# Altium footprint library Wurth_Elektronik_Passive_rev16a.PCBLIB: 810 footprints (part 19 of 51)
Each footprint in its own frame and in the unit in brackets; x right, y up, seen from the top. Pads: shape width x height; smd on the part's side, far side on the other; paste and mask are expansions set on the pad; w line width, h text height; cw(c..) or ccw(c..) is an arc to the next point about the centre after c.
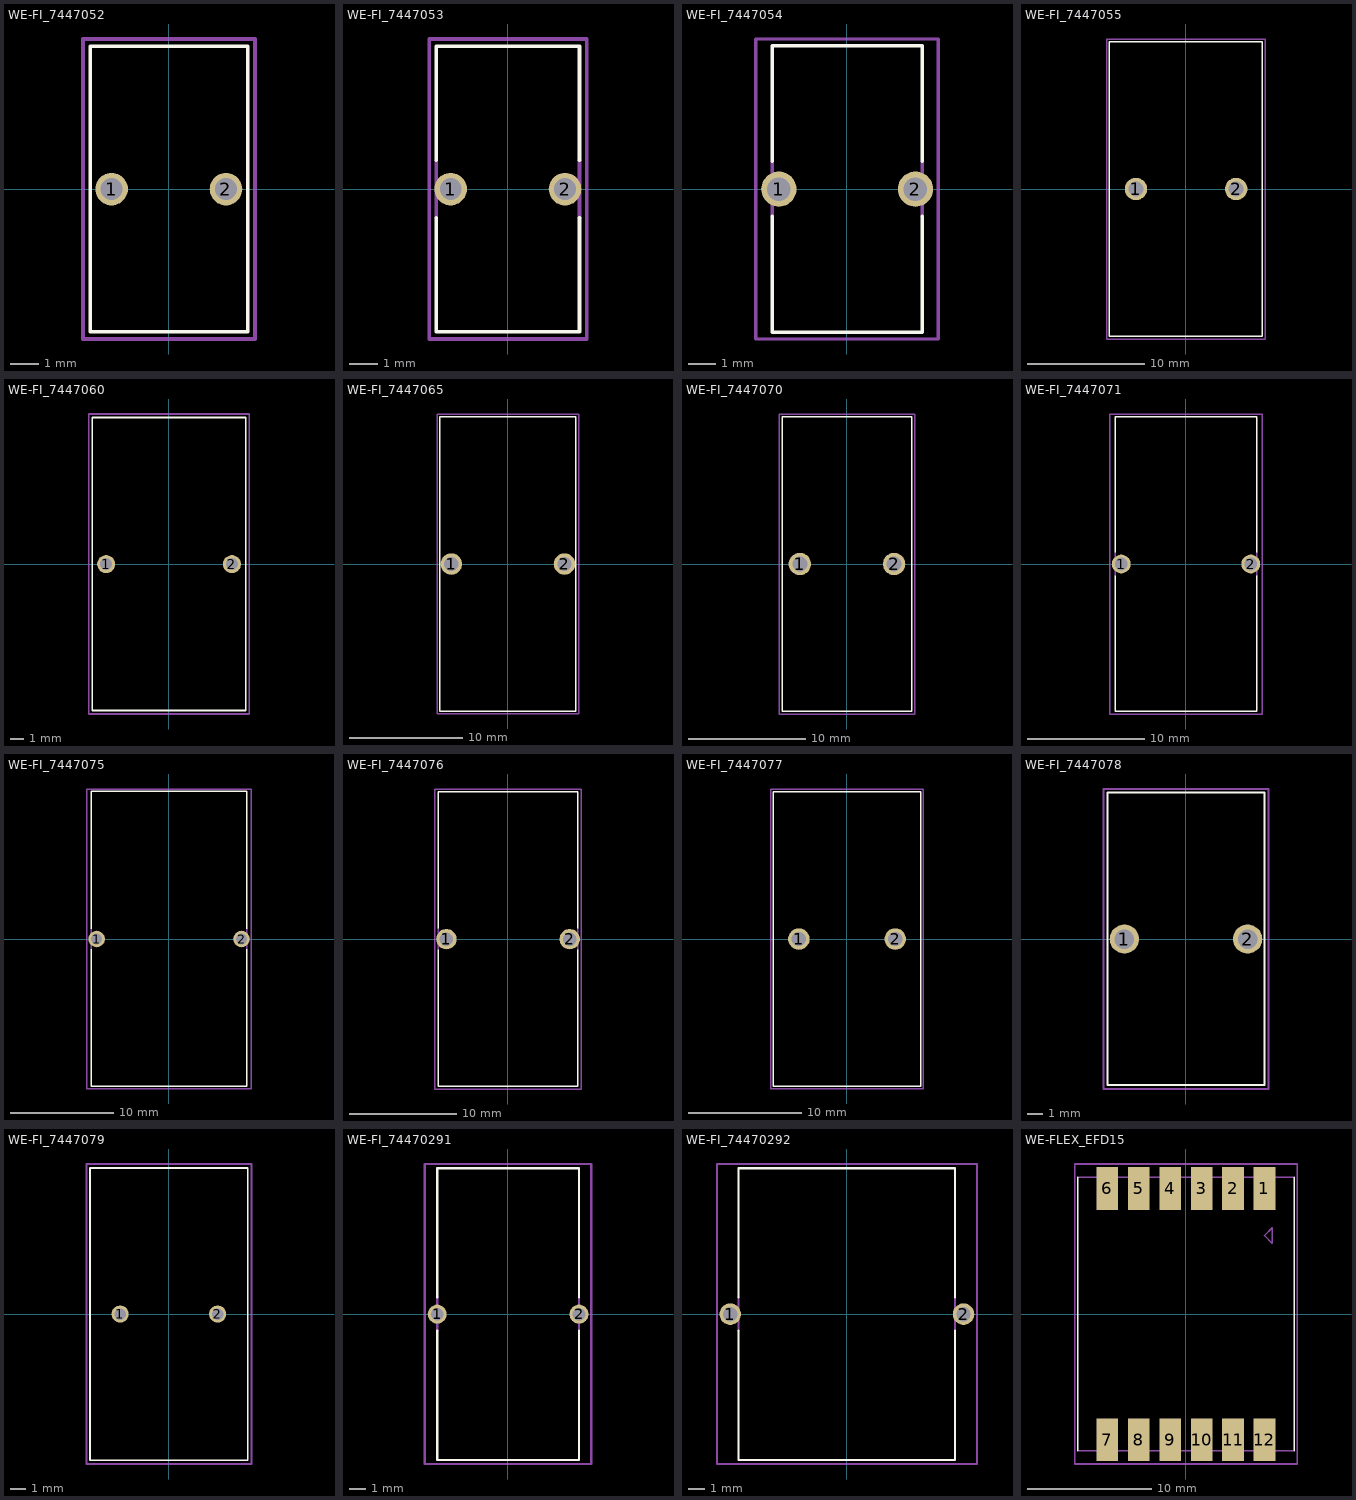
[diagram p18: the footprints below, top view; thin cyan lines are the x and y axes]

## WE-FI_7447052 [mil]
pads (2):
  round 45 hole 30: 1(-78.74,0) 2(79,0)
Top Overlay:
  lines w5: -108.27,-196.85 -108.27,197 109,197 109,-196.85 -108.27,-196.85
Mechanical 2:
  text ">NAME" at -108.27,207 h77.5
Mechanical 4:
  text ">VALUE" at -108.27,-256.69 h77.5
Mechanical 27:
  lines w5: -118.11,-206.69 -118.11,207 119,207 119,-206.69 -118.11,-206.69

## WE-FI_7447053 [mil]
pads (2):
  round 45 hole 30: 1(-78.74,0) 2(79,0)
Top Overlay:
  lines w5: -98.43,-39.37 -98.43,-196.85 99,-196.85 99,-39.37 ; -98.43,40 -98.43,197 99,197 99,40
Mechanical 2:
  text ">NAME" at -98.43,207 h77.5
Mechanical 4:
  text ">VALUE" at -98.43,-256.69 h77.5
Mechanical 16:
  lines w5: -98.43,-39.37 -98.43,40 ; 99,-39.37 99,40
Mechanical 27:
  lines w5: -108.27,-206.69 -108.27,207 109,207 109,-206.69 -108.27,-206.69

## WE-FI_7447054 [mil]
pads (2):
  round 51 hole 34: 1(-98.43,0) 2(99,0)
Top Overlay:
  lines w5: -108.27,-39.37 -108.27,-206.69 109,-206.69 109,-39.37 ; -108.27,40 -108.27,207 109,207 109,40
Mechanical 2:
  text ">NAME" at -108.27,217 h77.5
Mechanical 4:
  text ">VALUE" at -108.27,-266.54 h77.5
Mechanical 16:
  lines w5: -108.27,-39.37 -108.27,40 ; 109,-39.37 109,40
Mechanical 27:
  lines w5: -131.89,-216.54 -131.89,217 132,217 132,-216.54 -131.89,-216.54

## WE-FI_7447055 [mil]
pads (2):
  round 75 hole 50: 1(-167.32,0) 2(168,0)
Top Overlay:
  lines w5: -255.91,-492.13 -255.91,493 256,493 256,-492.13 -255.91,-492.13
Mechanical 2:
  text ">NAME" at -255.91,502 h77.5
Mechanical 4:
  text ">VALUE" at -255.91,-551.97 h77.5
Mechanical 27:
  lines w5: -265.75,-501.97 -265.75,502 266,502 266,-501.97 -265.75,-501.97

## WE-FI_7447060 [mil]
pads (2):
  round 51 hole 34: 1(-177.17,0) 2(178,0)
Top Overlay:
  lines w5: -216.54,-413.39 -216.54,414 217,414 217,-413.39 -216.54,-413.39
Mechanical 2:
  text ">NAME" at -216.54,424 h77.5
Mechanical 4:
  text ">VALUE" at -216.54,-473.23 h77.5
Mechanical 27:
  lines w5: -226.38,-423.23 -226.38,424 227,424 227,-423.23 -226.38,-423.23

## WE-FI_7447065 [mil]
pads (2):
  round 75 hole 50: 1(-196.85,0) 2(197,0)
Top Overlay:
  lines w5: -236.22,-511.81 -236.22,512 237,512 237,-511.81 -236.22,-511.81
Mechanical 2:
  text ">NAME" at -236.22,522 h77.5
Mechanical 4:
  text ">VALUE" at -236.22,-571.65 h77.5
Mechanical 27:
  lines w5: -246.06,-521.65 -246.06,522 247,522 247,-521.65 -246.06,-521.65

## WE-FI_7447070 [mil]
pads (2):
  round 75 hole 50: 1(-157.48,0) 2(158,0)
Top Overlay:
  lines w5: -216.54,-492.13 -216.54,493 217,493 217,-492.13 -216.54,-492.13
Mechanical 2:
  text ">NAME" at -216.54,502 h77.5
Mechanical 4:
  text ">VALUE" at -216.54,-551.97 h77.5
Mechanical 27:
  lines w5: -226.38,-501.97 -226.38,502 227,502 227,-501.97 -226.38,-501.97

## WE-FI_7447071 [mil]
pads (2):
  round 63 hole 42: 1(-216.54,0) 2(217,0)
Top Overlay:
  lines w5: -236.22,-39.37 -236.22,-492.13 237,-492.13 237,-39.37 ; -236.22,40 -236.22,493 237,493 237,40
Mechanical 2:
  text ">NAME" at -236.22,502 h77.5
Mechanical 4:
  text ">VALUE" at -236.22,-551.97 h77.5
Mechanical 16:
  lines w5: -236.22,-39.37 -236.22,40 ; 237,-39.37 237,40
Mechanical 27:
  lines w5: -255.91,-501.97 -255.91,502 256,502 256,-501.97 -255.91,-501.97

## WE-FI_7447075 [mil]
pads (2):
  round 63 hole 42: 1(-275.59,0) 2(276,0)
Top Overlay:
  lines w5: -295.28,-39.37 -295.28,-561.02 296,-561.02 296,-39.37 ; -295.28,40 -295.28,562 296,562 296,40
Mechanical 2:
  text ">NAME" at -295.28,571 h77.5
Mechanical 4:
  text ">VALUE" at -295.28,-620.87 h77.5
Mechanical 16:
  lines w5: -295.28,-39.37 -295.28,40 ; 296,-39.37 296,40
Mechanical 27:
  lines w5: -312.99,-570.87 -312.99,571 313,571 313,-570.87 -312.99,-570.87

## WE-FI_7447076 [mil]
pads (2):
  round 75 hole 50: 1(-226.38,0) 2(227,0)
Top Overlay:
  lines w5: -255.91,-39.37 -255.91,-541.34 256,-541.34 256,-39.37 ; -255.91,40 -255.91,542 256,542 256,40
Mechanical 2:
  text ">NAME" at -255.91,552 h77.5
Mechanical 4:
  text ">VALUE" at -255.91,-601.18 h77.5
Mechanical 16:
  lines w5: -255.91,-39.37 -255.91,40 ; 256,-39.37 256,40
Mechanical 27:
  lines w5: -269.69,-551.18 -269.69,552 270,552 270,-551.18 -269.69,-551.18

## WE-FI_7447077 [mil]
pads (2):
  round 75 hole 50: 1(-167.32,0) 2(168,0)
Top Overlay:
  lines w5: -255.91,-511.81 -255.91,512 256,512 256,-511.81 -255.91,-511.81
Mechanical 2:
  text ">NAME" at -255.91,552 h77.5
Mechanical 4:
  text ">VALUE" at -255.91,-601.18 h77.5
Mechanical 27:
  lines w5: -265.75,-521.65 -265.75,522 266,522 266,-521.65 -265.75,-521.65

## WE-FI_7447078 [mil]
pads (2):
  round 75 hole 50: 1(-157.48,0) 2(158,0)
Top Overlay:
  lines w5: -200.79,-374.02 -200.79,375 201,375 201,-374.02 -200.79,-374.02
Mechanical 2:
  text ">NAME" at -205.91,402 h77.5
Mechanical 4:
  text ">VALUE" at -205.91,-451.18 h77.5
Mechanical 27:
  lines w5: -210.63,-383.86 -210.63,384 211,384 211,-383.86 -210.63,-383.86

## WE-FI_7447079 [mil]
pads (2):
  round 45 hole 30: 1(-127.95,0) 2(128,0)
Top Overlay:
  lines w5: -206.69,-383.86 -206.69,384 207,384 207,-383.86 -206.69,-383.86
Mechanical 2:
  text ">NAME" at -205.91,402 h77.5
Mechanical 4:
  text ">VALUE" at -205.91,-451.18 h77.5
Mechanical 27:
  lines w5: -216.54,-393.7 -216.54,394 217,394 217,-393.7 -216.54,-393.7

## WE-FI_74470291 [mil]
pads (2):
  round 45 hole 30: 1(-167.32,0) 2(168,0)
Top Overlay:
  lines w5: -167.32,-39.37 -167.32,-344.49 168,-344.49 168,-39.37 ; -167.32,40 -167.32,345 168,345 168,40
Mechanical 2:
  text ">NAME" at -167.32,355 h77.5
Mechanical 4:
  text ">VALUE" at -167.32,-404.33 h77.5
Mechanical 16:
  lines w5: -167.32,-39.37 -167.32,40 ; 168,-39.37 168,40
Mechanical 27:
  lines w5: -196.85,-354.33 -196.85,355 197,355 197,-354.33 -196.85,-354.33

## WE-FI_74470292 [mil]
pads (2):
  round 51 hole 34: 1(-275.59,0) 2(276,0)
Top Overlay:
  lines w5: -255.91,-39.37 -255.91,-344.49 256,-344.49 256,-39.37 ; -255.91,40 -255.91,345 256,345 256,40
Mechanical 2:
  text ">NAME" at -255.91,355 h77.5
Mechanical 4:
  text ">VALUE" at -255.91,-404.33 h77.5
Mechanical 16:
  lines w5: -255.91,-39.37 -255.91,40 ; 256,-39.37 256,40
Mechanical 27:
  lines w5: -307.09,-354.33 -307.09,355 308,355 308,-354.33 -307.09,-354.33

## WE-FLEX_EFD15 [mil]
pads (12):
  rect 69x136 smd: 1(250,400) 2(150,400) 3(50,400) 4(-50,400) 5(-150,400) 6(-250,400) 7(-250,-399.8) 8(-150,-399.8) 9(-50,-399.8) 10(50,-399.8) 11(150,-399.8) 12(250,-399.8)
Top Overlay:
  lines w5: -344.49,-435.04 -344.49,436 ; 345,-435.04 345,436
Mechanical 2:
  text ">NAME" at -350,500 h77.5
Mechanical 4:
  lines w5: 250,250 275,275 275,225 250,250
  text ">VALUE" at -350,-575 h77.5
Mechanical 16:
  lines w5: -344.49,-435.04 345,-435.04 ; -344.49,436 345,436
Mechanical 27:
  lines w5: -354.33,-477.17 -354.33,478 355,478 355,-477.17 -354.33,-477.17